# EAGLE library part 615008142521 (library EAGLE-INPUT_OUTPUT_CONNECTORS-rev17c)
WR-MJ 45° Plastic 8P8C Modular Jack,8 pins=>Code : Con_I-O_MJ-45_615008142521 <http://katalog.we-online.de/media/images/eican/Con_I-O_MJ-45_615008142521_pf2.jpg> Details see: http://katalog.we-online.de/en/em/MJ_45%C2%B0_PLASTIC_8P8C Created 2014-07-10, Karrer Zheng 2014 (C) Würth Elektronik
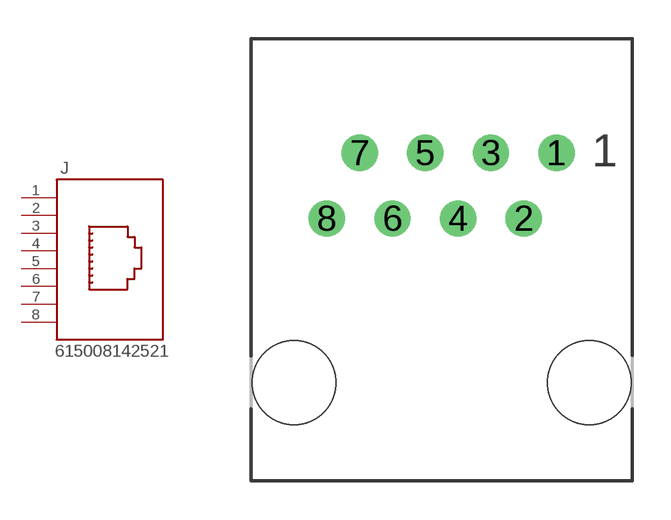
[diagram p114: symbol with the pads of 615008142521; footprint 615008142521]

Designator prefix J

## 615008142521  [615008142521]
1  8  pas
2  7  pas
3  6  pas
4  5  pas
5  4  pas
6  3  pas
7  2  pas
8  1  pas

## Footprint 615008142521 (pad centres in mm)
WR-MJ 45° Plastic 8P8C Modular Jack,8 pins
drill 0.9: 1 4.445,1.27; 2 3.175,-1.27; 3 1.905,1.27; 4 0.635,-1.27; 5 -0.635,1.27; 6 -1.905,-1.27; 7 -3.175,1.27; 8 -4.445,-1.27
hole 3.25 at -5.715,-7.62
hole 3.25 at 5.715,-7.62